# EAGLE library part GAL22V10 (library A3660)
Device made by Edu Arana
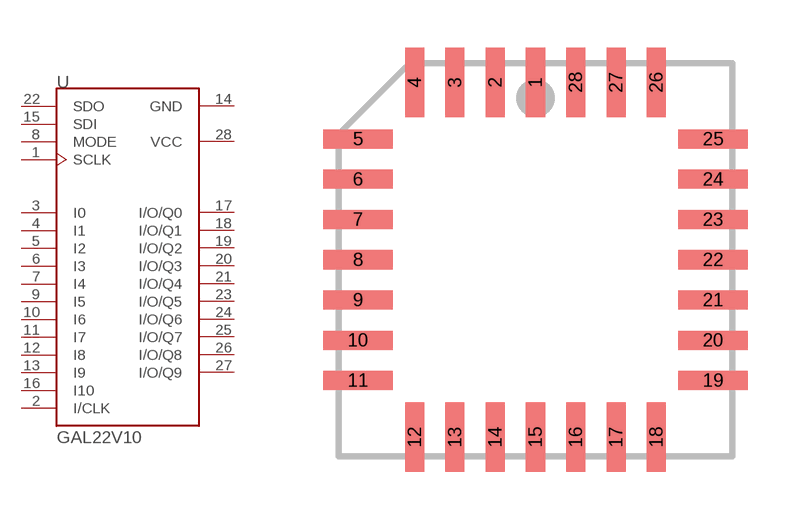
[diagram p2: symbol with the pads of GAL22V10; footprint GAL22V10]

Designator prefix -

## GAL22V10  [GAL22V10]
1  SCLK  in
2  I/CLK  in
3  I0  in
4  I1  in
5  I2  in
6  I3  in
7  I4  in
8  MODE  in
9  I5  in
10  I6  in
11  I7  in
12  I8  in
13  I9  in
14  GND
15  SDI  in
16  I10  in
17  I/O/Q0
18  I/O/Q1
19  I/O/Q2
20  I/O/Q3
21  I/O/Q4
22  SDO  out
23  I/O/Q5
24  I/O/Q6
25  I/O/Q7
26  I/O/Q8
27  I/O/Q9
28  VCC

## Footprint GAL22V10 (pad centres in mm)
smd 0.6 x 2.2: 1 0,5.6; 2 -1.27,5.6; 3 -2.54,5.6; 4 -3.81,5.6; 12 -3.81,-5.6; 13 -2.54,-5.6; 14 -1.27,-5.6; 15 0,-5.6; 16 1.27,-5.6; 17 2.54,-5.6; 18 3.81,-5.6; 26 3.81,5.6; 27 2.54,5.6; 28 1.27,5.6
smd 2.2 x 0.6: 5 -5.6,3.81; 6 -5.6,2.54; 7 -5.6,1.27; 8 -5.6,0; 9 -5.6,-1.27; 10 -5.6,-2.54; 11 -5.6,-3.81; 19 5.6,-3.81; 20 5.6,-2.54; 21 5.6,-1.27; 22 5.6,0; 23 5.6,1.27; 24 5.6,2.54; 25 5.6,3.81